# Altium schematic symbol library B3U-1000P.SchLib: 1 symbol
Pins are listed as number, name and electrical type; pins without a type are passive.

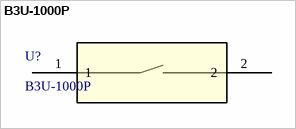
[diagram p0: symbol B3U-1000P]

## B3U-1000P
designator U?
Description; Manufacturer_Name: Omron; Copyright: Copyright (C) 2025 Ultra Librarian. All rights reserved.; Manufacturer_Part_Number: B3U-1000P; RefDes: RefDes; Type: Type
footprint B3U-1000P
pins: 1, 2